# Altium footprint library MODULEWIFI_ESP.PcbLib: 18 footprints (part 1 of 2)
Each footprint in its own frame and in the unit in brackets; x right, y up, seen from the top. Pads: shape width x height; smd on the part's side, far side on the other; paste and mask are expansions set on the pad; w line width, h text height; cw(c..) or ccw(c..) is an arc to the next point about the centre after c.
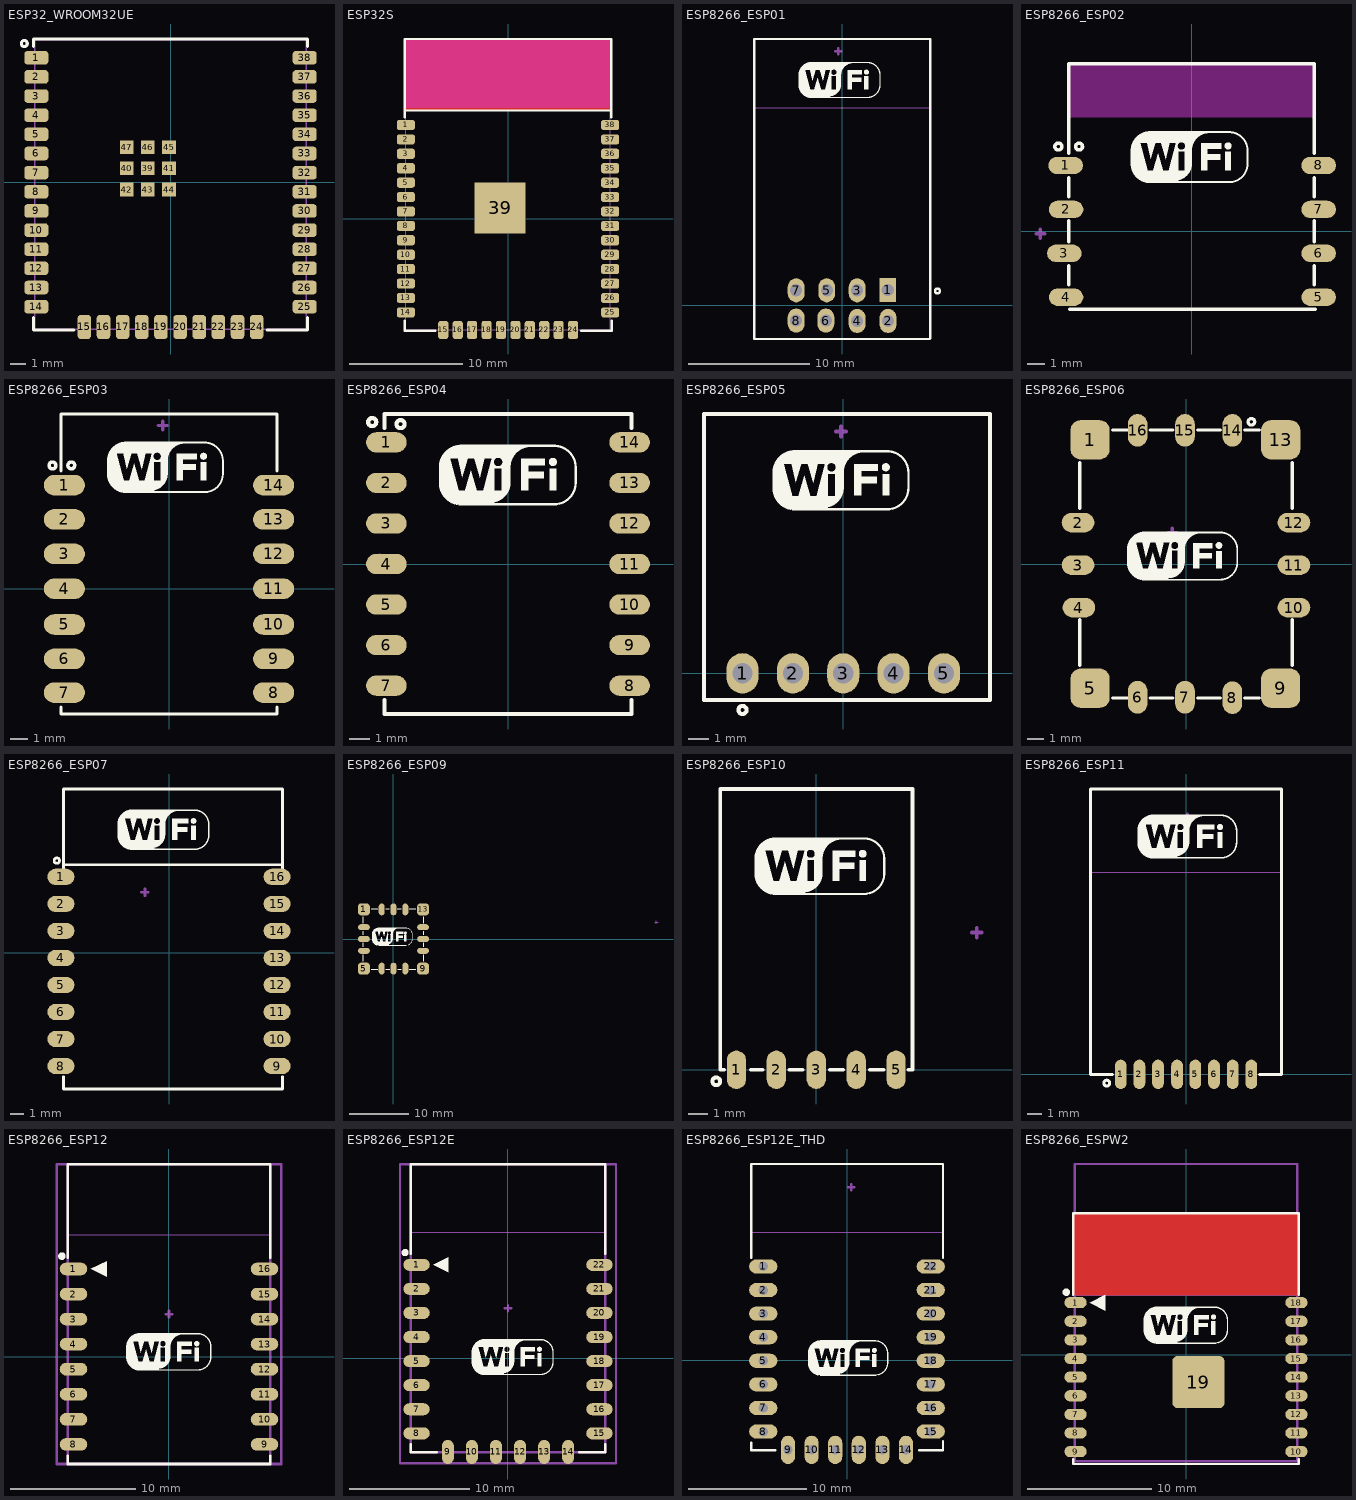
[diagram p0: the footprints below, top view; thin cyan lines are the x and y axes]

## ESP32_WROOM32UE [mm] "ESP32-WROOM-32UE-N4"
pads (47):
  rrect50% 1.6x0.9 smd: 1(-8.9,8.255) 2(-8.9,6.985) 3(-8.9,5.715) 4(-8.9,4.445) 5(-8.9,3.175) 6(-8.9,1.905) 7(-8.9,0.635) 8(-8.9,-0.635) 9(-8.9,-1.905) 10(-8.9,-3.175) 11(-8.9,-4.445) 12(-8.9,-5.715) 13(-8.9,-6.985) 14(-8.9,-8.255) 25(8.9,-8.255) 26(8.9,-6.985) 27(8.9,-5.715) 28(8.9,-4.445) 29(8.9,-3.175) 30(8.9,-1.905) 31(8.9,-0.635) 32(8.9,0.635) 33(8.9,1.905) 34(8.9,3.175) 35(8.9,4.445) 36(8.9,5.715) 37(8.9,6.985) 38(8.9,8.255)
  rrect50% 0.9x1.6 smd: 15(-5.715,-9.6) 16(-4.445,-9.6) 17(-3.175,-9.6) 18(-1.905,-9.6) 19(-0.635,-9.6) 20(0.635,-9.6) 21(1.905,-9.6) 22(3.175,-9.6) 23(4.445,-9.6) 24(5.715,-9.6)
  rect 0.9x0.9 smd: 39(-1.5,0.915) 40(-2.9,0.915) 41(-0.1,0.915) 42(-2.9,-0.485) 43(-1.5,-0.485) 44(-0.1,-0.485) 45(-0.1,2.315) 46(-1.5,2.315) 47(-2.9,2.315)
Top Overlay:
  circle w0.2: c-9.7,9.2 r0.2
  lines w0.2: -9.1,-8.97 -9.1,-9.8 -6.4,-9.8 ; -9.1,9 -9.1,9.5 9.1,9.5 9.1,9 ; 6.4,-9.8 9.1,-9.8 9.1,-8.97
Mechanical 15:
  lines w0.1: -9,-9.755 -9,9.445 9,9.445 9,-9.755 -9,-9.755
3D body "ESP32-WROOM-32UE-N4--3DModel-STEP-269445.STEP": height 3.35, standoff 0, extent -9,-9.75 9,9.45

## ESP32S [mm] "ESP-32S, ESP32­WROOM­32E"
pads (39):
  rrect50% 1.6x0.9 smd paste-0.061 mask+0.075: 1(-9,8.255) 2(-9,6.985) 3(-9,5.715) 4(-9,4.445) 5(-9,3.175) 6(-9,1.905) 7(-9,0.635) 8(-9,-0.635) 9(-9,-1.905) 10(-9,-3.175) 11(-9,-4.445) 12(-9,-5.715) 13(-9,-6.985) 14(-9,-8.255) 25(9,-8.255) 26(9,-6.985) 27(9,-5.715) 28(9,-4.445) 29(9,-3.175) 30(9,-1.905) 31(9,-0.635) 32(9,0.635) 33(9,1.905) 34(9,3.175) 35(9,4.445) 36(9,5.715) 37(9,6.985) 38(9,8.255)
  rrect50% 0.9x1.6 smd paste-0.061 mask+0.075: 15(-5.7,-9.8) 16(-4.43,-9.8) 17(-3.16,-9.8) 18(-1.89,-9.8) 19(-0.62,-9.8) 20(0.65,-9.8) 21(1.92,-9.8) 22(3.19,-9.8) 23(4.46,-9.8) 24(5.73,-9.8)
  rect 4.5x4.5 smd paste-2.25: 39(-0.7,0.943)
Top Layer:
  pour cut-out: -9.1,15.83 9.1,15.83 9.1,9.53 -9.1,9.53
Top Overlay:
  lines w0.2: -9.1,-8.97 -9.1,-9.87 -6.4,-9.87 ; -9.1,8.93 -9.1,15.83 9.1,15.83 9.1,8.93 ; -9.1,9.53 9.1,9.53 ; 6.43,-9.87 9.13,-9.87 9.13,-8.97
Top Paste:
  region: -2.8,3.043 -0.9,3.043 -0.9,1.143 -2.8,1.143
  region: -0.5,3.043 1.4,3.043 1.4,1.143 -0.5,1.143
  region: -2.8,-1.158 -0.9,-1.158 -0.9,0.743 -2.8,0.743
  region: -0.5,-1.158 1.4,-1.158 1.4,0.743 -0.5,0.743
Keep-Out Layer:
  region: 9,9.755 -9,9.755 -9,15.755 9,15.755
  region: 9,9.755 -9,9.755 -9,15.755 9,15.755
Mechanical 13:
  lines w0.1: -9,-9.77 9,-9.77 9,15.755 -9,15.755 -9,-9.77
3D body "User Library-esp-wroom-32.step": height 3.05, standoff 0.01, extent -9.035,-9.795 9.035,15.745

## ESP8266_ESP01 [mm] "ESP8266 ESP-01 Wi07C"
pads (8):
  rect 1.4x2 hole 1: 1(3.785,1.283)
  oval 1.4x2 hole 1: 2(3.81,-1.283) 3(1.245,1.257) 4(1.245,-1.283) 5(-1.27,1.257) 6(-1.346,-1.257) 7(-3.81,1.257) 8(-3.81,-1.257)
Top Overlay:
  drawing of 10 lines, arcs and shapes, not listed
Mechanical 13:
  lines w0.051: -7.289,16.395 7.315,16.395
Mechanical 15:
  lines w0.2: -0.559,21.067 -0.051,21.067 ; -0.305,20.813 -0.305,21.321
3D body "User Library-Wi07C.STEP": height 5.8, standoff -5.88, extent -7.261,-2.761 7.239,22.039

## ESP8266_ESP02 [mm] "ESP8266 ESP-02"
pads (8):
  oval 2x1 smd: 1(-7.277,3.81) 2(-7.252,1.27) 3(-7.353,-1.27) 4(-7.252,-3.81) 5(7.353,-3.81) 6(7.353,-1.27) 7(7.353,1.27) 8(7.353,3.81)
Top Layer keep-out:
  region: 7.151,9.703 7.125,9.676 7.125,6.604 -7.023,6.604 -7.048,6.629 -7.048,9.703
Top Overlay:
  drawing of 16 lines, arcs and shapes, not listed
Mechanical 15:
  lines w0.2: -8.99,-0.14 -8.482,-0.14 ; -8.736,-0.394 -8.736,0.114
3D body: height 1, standoff 0.5, extent -2.413,-3.391 -0.152,-0.927
3D body: height 1, standoff 0.5, extent -3.594,0.559 0.902,4.877
3D body: height 0.5, standoff 0, extent -7.048,-4.496 7.15,9.703

## ESP8266_ESP03 [mm] "ESP8266 ESP-03"
pads (14):
  oval 2.4x1.2 smd: 1(-6.1,6.051) 2(-6.1,4.051) 3(-6.1,2.038) 4(-6.1,0.006) 5(-6.1,-2.077) 6(-6.1,-4.084) 7(-6.1,-6.051) 8(6.1,-6.051) 9(6.1,-4.084) 10(6.1,-2.077) 11(6.1,0.006) 12(6.1,2.038) 13(6.1,4.051) 14(6.1,6.051)
Top Overlay:
  drawing of 12 lines, arcs and shapes, not listed
Mechanical 15:
  lines w0.2: -0.622,9.528 -0.114,9.528 ; -0.368,9.274 -0.368,9.782
3D body "User Library-ESP-03.STEP": height 3.42, standoff -0.02, extent -6.135,-7.183 6.165,10.117

## ESP8266_ESP04 [mm] "ESP8266 ESP-04"
pads (14):
  oval 2x1 smd: 1(-6,6) 2(-6,4) 3(-6,2) 4(-6,0) 5(-6,-2) 6(-6,-4) 7(-6,-6) 8(6,-6) 9(6,-4) 10(6,-2) 11(6,0) 12(6,2) 13(6,4) 14(6,6)
Top Overlay:
  drawing of 12 lines, arcs and shapes, not listed
Mechanical 15:
  lines w0.2: -6.591,0.165 -6.083,0.165 ; -6.337,-0.089 -6.337,0.419
3D body: height 0.5, standoff 0, extent -6,-7.326 6,7.356
3D body: height 1, standoff 0.5, extent -4,-0.645 0.495,3.673
3D body: height 1, standoff 0.5, extent -3.975,-4.379 -1.714,-1.915

## ESP8266_ESP05 [mm] "ESP8266 ESP-05"
pads (5):
  oval 1.6x2 hole 1: 1(-5,0) 2(-2.5,0) 3(0,0) 4(2.5,0) 5(5,0)
Top Overlay:
  drawing of 9 lines, arcs and shapes, not listed
Mechanical 15:
  lines w0.2: -0.359,12.012 0.149,12.012 ; -0.105,11.758 -0.105,12.266
3D body: height 0.5, standoff 0, extent -6.913,-1.295 7.286,12.878
3D body: height 1, standoff 0.5, extent -4.246,2.159 0.072,6.655
3D body: height 1, standoff 0.5, extent 1.342,2.184 3.806,4.445

## ESP8266_ESP06 [mm] "ESP8266 ESP-06"
pads (16):
  rrect50% 2.4x2.4 smd: 1(-5.867,7.6) 5(-5.867,-7.6) 9(5.791,-7.6) 13(5.791,7.6)
  oval 2x1.2 smd: 2(-6.604,2.531) 3(-6.604,-0.069) 4(-6.553,-2.669) 10(6.604,-2.669) 11(6.604,-0.069) 12(6.604,2.531)
  oval 1.2x2 smd: 6(-2.962,-8.153) 7(-0.062,-8.153) 8(2.838,-8.179) 14(2.838,8.179) 15(-0.062,8.179) 16(-2.962,8.179)
Top Overlay:
  drawing of 17 lines, arcs and shapes, not listed
Mechanical 15:
  lines w0.2: -1.092,1.928 -0.584,1.928 ; -0.838,1.674 -0.838,2.182
3D body: height 0.5, standoff 0, extent -6.604,-8.103 6.477,8.179
3D body: height 1, standoff 0.5, extent -3.389,0.127 1.107,4.445
3D body: height 1, standoff 0.5, extent -3.363,-3.607 -1.103,-1.143

## ESP8266_ESP07 [mm] "ESP8266 ESP-07"
pads (16):
  oval 2x1.2 smd: 1(-8,5.6) 2(-8,3.6) 3(-8,1.6) 4(-8,-0.4) 5(-8,-2.4) 6(-8,-4.4) 7(-8,-6.4) 8(-8,-8.4) 9(8,-8.4) 10(8,-6.4) 11(8,-4.4) 12(8,-2.4) 13(8,-0.4) 14(8,1.6) 15(8,3.6) 16(8,5.6)
Top Overlay:
  drawing of 12 lines, arcs and shapes, not listed
Mechanical 15:
  lines w0.2: -2.034,4.456 -1.526,4.456 ; -1.78,4.202 -1.78,4.71
3D body "User Library-ESP07-1.step": height 3.5, standoff -0.01, extent -7.681,-9.987 8.319,12.013

## ESP8266_ESP09 [mm] "ESP8266 ESP-09"
pads (16):
  rrect50% 2x2 smd: 1(-5,5) 5(-5,-5) 9(5,-5) 13(5,5)
  oval 2x1 smd: 2(-5,2) 3(-5,0) 4(-5,-2) 10(5,-2) 11(5,0) 12(5,2)
  oval 1x2 smd: 6(-2,-5) 7(0,-5) 8(2,-5) 14(2,5) 15(0,5) 16(-2,5)
Top Overlay:
  drawing of 20 lines, arcs and shapes, not listed
Mechanical 15:
  lines w0.2: 44.2,2.796 44.708,2.796 ; 44.454,2.542 44.454,3.05
3D body: height 0.5, standoff 0, extent -5,-5.008 5.008,5
3D body: height 1, standoff 0.5, extent -2.231,-2.061 2.087,2.435

## ESP8266_ESP10 [mm] "ESP8266 ESP-10"
pads (5):
  oval 1x2 smd: 1(-4.153,0) 2(-2.076,0) 3(0,0) 4(2.076,0) 5(4.153,0)
Top Overlay:
  drawing of 14 lines, arcs and shapes, not listed
Mechanical 15:
  lines w0.2: 8.09,7.135 8.598,7.135 ; 8.344,6.881 8.344,7.389
3D body: height 0.5, standoff 0, extent -4.991,0.102 5.016,14.58
3D body: height 1, standoff 0.5, extent -4.102,5.512 0.394,9.83
3D body: height 1, standoff 0.5, extent -4.077,1.778 -1.816,4.242

## ESP8266_ESP11 [mm] "ESP8266 ESP-11"
pads (8):
  oval 0.8x2 smd: 1(-4.445,0) 2(-3.175,0) 3(-1.905,0) 4(-0.61,0) 5(0.635,0) 6(1.905,0) 7(3.175,0) 8(4.445,0)
Top Overlay:
  drawing of 10 lines, arcs and shapes, not listed
Mechanical 13:
  lines w0.051: -6.476,13.766 6.498,13.767
Mechanical 15:
  lines w0.2: -0.152,17.473 0.356,17.473 ; 0.102,17.219 0.102,17.727
3D body: height 0.5, standoff 0, extent -6.502,0.127 6.502,19.431
3D body: height 1, standoff 0.5, extent -3.785,7.798 0.711,12.116
3D body: height 1, standoff 0.5, extent -3.759,4.064 -1.499,6.528

## ESP8266_ESP12 [mm] "ESP8266 ESP-12 Wi-Fi Module"
height 3.2
pads (16):
  oval 2.2x1 smd: 1(-7.625,7) 2(-7.625,5) 3(-7.625,3) 4(-7.625,1) 5(-7.625,-1) 6(-7.625,-3) 7(-7.625,-5) 8(-7.625,-7) 9(7.625,-7) 10(7.625,-5) 11(7.625,-3) 12(7.625,-1) 13(7.625,1) 14(7.625,3) 15(7.625,5) 16(7.625,7)
Top Overlay:
  drawing of 12 lines, arcs and shapes, not listed
Mechanical 13:
  lines w0.051: -8.127,9.727 8.129,9.727 8.129,15.382 -8.127,15.382 -8.127,9.727
  lines w0.2: -8.084,-8.568 -8.084,15.371 8.084,15.371 8.084,-8.568 -8.084,-8.568
  text "ANTENNA AREA" at -7.873,14.874 h0.25
  text "CUTOUT POLYGON" at -7.873,14.366 h0.25
Mechanical 15:
  lines w0.2: -0.254,3.402 0.254,3.402 ; 0,3.148 0,3.656 ; -8.975,-8.568 8.975,-8.568 8.975,15.371 -8.975,15.371 -8.975,-8.568
3D body "ESP_12_ENew.STEP": height 3.82, standoff -0.05, extent -7.859,-8.522 8.156,15.509

## ESP8266_ESP12E [mm] "ESP-12 Wi-Fi Module"
height 3.2
pads (22):
  oval 2.2x1 smd: 1(-7.6,7.75) 2(-7.6,5.75) 3(-7.6,3.75) 4(-7.6,1.75) 5(-7.6,-0.25) 6(-7.6,-2.25) 7(-7.6,-4.25) 8(-7.6,-6.25) 15(7.6,-6.25) 16(7.6,-4.25) 17(7.6,-2.25) 18(7.6,-0.25) 19(7.6,1.75) 20(7.6,3.75) 21(7.6,5.75) 22(7.6,7.75)
  oval 1x2 smd: 9(-5,-7.8) 10(-3,-7.8) 11(-1,-7.8) 12(1,-7.8) 13(3,-7.8) 14(5,-7.8)
Top Overlay:
  drawing of 13 lines, arcs and shapes, not listed
Mechanical 13:
  lines w0.051: -8.127,10.477 8.129,10.477 8.129,16.132 -8.127,16.132 -8.127,10.477
  lines w0.2: -8.084,-7.818 -8.084,16.121 8.084,16.121 8.084,-7.818 -8.084,-7.818
Mechanical 15:
  lines w0.2: -0.254,4.152 0.254,4.152 ; 0,3.898 0,4.406 ; -8.975,-8.75 8.975,-8.75 8.975,16.121 -8.975,16.121 -8.975,-8.75
3D body "ESP_12_E.STEP": height 2.75, standoff 0.04, extent -7.999,-7.741 8.001,16.259

## ESP8266_ESP12E_THD [mm] "ESP8266 ESP-12-E YHD"
pads (22):
  oval 2.4x1.2 hole 0.8: 1(-7.1,7.95) 2(-7.1,5.95) 3(-7.1,3.95) 4(-7.1,1.95) 5(-7.1,-0.05) 6(-7.1,-2.05) 7(-7.1,-4.05) 8(-7.1,-6.05) 15(7.1,-6.05) 16(7.1,-4.05) 17(7.1,-2.05) 18(7.1,-0.05) 19(7.1,1.95) 20(7.1,3.95) 21(7.1,5.95) 22(7.1,7.95)
  oval 1.2x2.4 hole 0.8: 9(-5,-7.6) 10(-3,-7.6) 11(-1,-7.6) 12(1,-7.6) 13(3,-7.6) 14(5,-7.6)
Top Overlay:
  drawing of 11 lines, arcs and shapes, not listed
Mechanical 13:
  lines w0.051: -8.063,10.87 8.193,10.87
Mechanical 15:
  lines w0.2: 0.114,14.679 0.622,14.679 ; 0.368,14.425 0.368,14.933
3D body "User Library-ESP_12_E.STEP": height -0.34, standoff -2.55, extent -8.001,-7.493 7.999,16.507

## ESP8266_ESPW2 [mm] "ESP8266 ESP-WROOM-02 Wi-Fi Module"
height 3.2
pads (19):
  oval 1.8x0.9 smd: 1(-8.9,4.2) 2(-8.9,2.7) 3(-8.9,1.2) 4(-8.9,-0.3) 5(-8.9,-1.8) 6(-8.9,-3.3) 7(-8.9,-4.8) 8(-8.9,-6.3) 9(-8.9,-7.8) 10(8.9,-7.8) 11(8.9,-6.3) 12(8.9,-4.8) 13(8.9,-3.3) 14(8.9,-1.8) 15(8.9,-0.3) 16(8.9,1.2) 17(8.9,2.7) 18(8.9,4.2)
  rrect20% 4.2x4.2 smd: 19(1,-2.2)
Top Layer:
  pour cut-out: -9.1,4.8 -9.1,11.4 9.1,11.4 9.1,4.8
Bottom Layer:
  pour cut-out: -9.1,4.8 -9.1,11.4 9.1,11.4 9.1,4.8
Top Overlay:
  drawing of 12 lines, arcs and shapes, not listed
Mechanical 13:
  lines w0.051: -9,4.8 9,4.8 9,11.382 -9,11.382 -9,4.8
  text "ANTENNA AREA" at -7.873,10.874 h0.25
  text "CUTOUT POLYGON" at -7.873,10.366 h0.25
Mechanical 15:
  lines w0.2: -0.254,3.402 0.254,3.402 ; 0,3.148 0,3.656 ; -8.975,-8.568 8.975,-8.568 8.975,15.371 -8.975,15.371 -8.975,-8.568
3D body "User Library-ESP-WROOM-02.step": height 3, standoff 0, extent -9,-8.675 9,11.325